# EAGLE library part NHD-2.4-240320SF (library Pygmy)
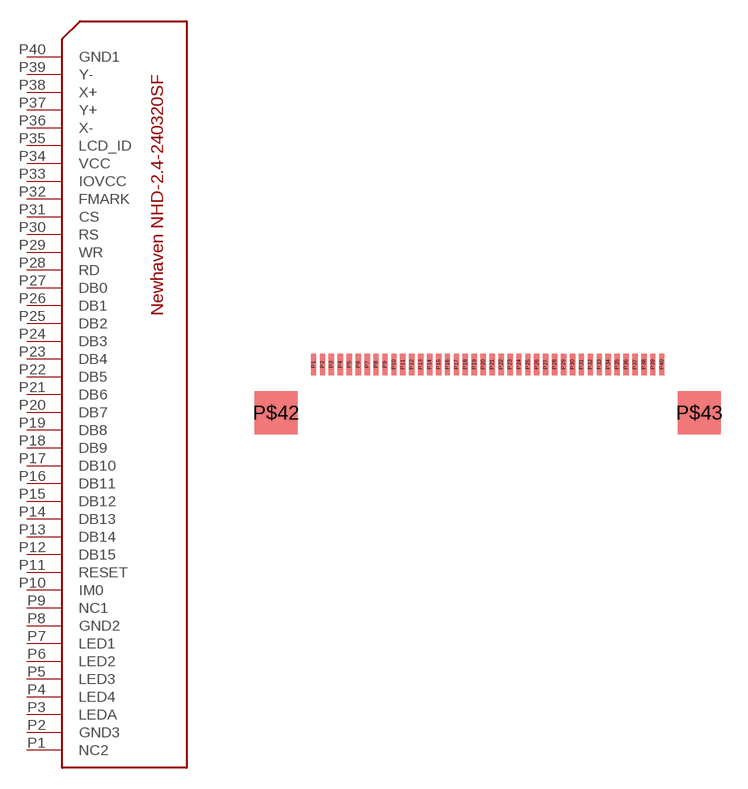
[diagram p63: symbol with the pads of MOLEX-534132-060; footprint MOLEX-534132-060]

Designator prefix -

## NHD-2.4-240320SF  [MOLEX-534132-060]
P1  NC2
P2  GND3
P3  LEDA
P4  LED4
P5  LED3
P6  LED2
P7  LED1
P8  GND2
P9  NC1
P10  IM0
P11  RESET
P12  DB15
P13  DB14
P14  DB13
P15  DB12
P16  DB11
P17  DB10
P18  DB9
P19  DB8
P20  DB7
P21  DB6
P22  DB5
P23  DB4
P24  DB3
P25  DB2
P26  DB1
P27  DB0
P28  RD
P29  WR
P30  RS
P31  CS
P32  FMARK
P33  IOVCC
P34  VCC
P35  LCD_ID
P36  X-
P37  Y+
P38  X+
P39  Y-
P40  GND1

## Footprint MOLEX-534132-060 (pad centres in mm)
smd 0.3 x 1.2: P1 0,0; P2 0.5,0; P3 1,0; P4 1.5,0; P5 2,0; P6 2.5,0; P7 3,0; P8 3.5,0; P9 4,0; P10 4.5,0; P11 5,0; P12 5.5,0; P13 6,0; P14 6.5,0; P15 7,0; P16 7.5,0; P17 8,0; P18 8.5,0; P19 9,0; P20 9.5,0; P21 10,0; P22 10.5,0; P23 11,0; P24 11.5,0; P25 12,0; P26 12.5,0; P27 13,0; P28 13.5,0; P29 14,0; P30 14.5,0; P31 15,0; P32 15.5,0; P33 16,0; P34 16.5,0; P35 17,0; P36 17.5,0; P37 18,0; P38 18.5,0; P39 19,0; P40 19.5,0
smd 2.4 x 2.4: P$42 -2.1,-2.7; P$43 21.6,-2.7